# Altium schematic symbol library SCH - POWER - LINEAR VREG - TI LM2940-N-5DCY.SchLib: 1 symbol
Pins are listed as number, name and electrical type; pins without a type are passive.

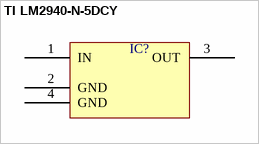
[diagram p0: symbol TI LM2940-N-5DCY]

## TI LM2940-N-5DCY
designator IC?  (value not drawn)
pins: 1 IN, 2 GND, 3 OUT, 4 GND